# EAGLE library part MAX232A (library _RoweTel)
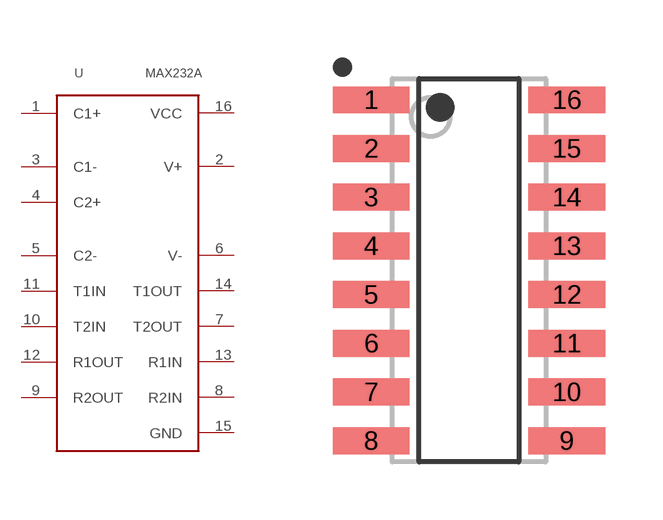
[diagram p35: symbol with the pads of MAX232A; footprint MAX232A]

Designator prefix U

## MAX232A  [MAX232A]
1  C1+  pas
2  V+  pas
3  C1-  pas
4  C2+  pas
5  C2-  pas
6  V-  pas
7  T2OUT  out
8  R2IN  in
9  R2OUT  out
10  T2IN  in
11  T1IN  in
12  R1OUT  out
13  R1IN  in
14  T1OUT  out
15  GND  pwr
16  VCC  pwr

## Footprint MAX232A (pad centres in mm)
smd 2 x 0.7: 1 -2.55,4.445; 2 -2.55,3.175; 3 -2.55,1.905; 4 -2.55,0.635; 5 -2.55,-0.635; 6 -2.55,-1.905; 7 -2.55,-3.175; 8 -2.55,-4.445; 9 2.55,-4.445; 10 2.55,-3.175; 11 2.55,-1.905; 12 2.55,-0.635; 13 2.55,0.635; 14 2.55,1.905; 15 2.55,3.175; 16 2.55,4.445